# Altium schematic symbol library THS3091.SchLib: 2 symbols
Pins are listed as number, name and electrical type; pins without a type are passive.

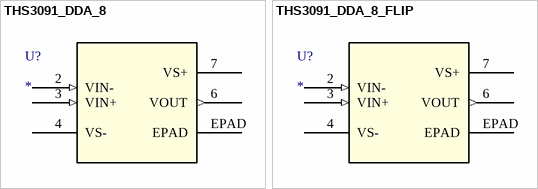
[diagram p0: symbols THS3091_DDA_8 to THS3091_DDA_8_FLIP]

## THS3091_DDA_8
designator U?
High-voltage, Low-distortion, Current-feedback Operational Amplifiers; Manufacturer: Texas Instruments; GENERIC_PART_NUMBER: THS3091; Manufacturer_Part_Number: ths3091_dda_8; INDUSTRY_STD_PKG_TYPE: SO PowerPAD; FAMILY_NAME: CURRENT FEEDBACK; PIN_COUNT: 8; PACKAGE_DESIGNATOR: DDA; Datasheet_URL: http://www.ti.com/lit/gpn/THS3091; Vendor: Texas Instruments; Value: Value; Type: Type; RefDes: RefDes
footprint DDA8_2P28X2P28
pins: 2 VIN- (in), 3 VIN+ (in), 4 VS- (power), 6 VOUT (out), 7 VS+ (power), EPAD

## THS3091_DDA_8_FLIP
designator U?
High-voltage, Low-distortion, Current-feedback Operational Amplifiers; Manufacturer: Texas Instruments; GENERIC_PART_NUMBER: THS3091; Manufacturer_Part_Number: ths3091_dda_8; INDUSTRY_STD_PKG_TYPE: SO PowerPAD; FAMILY_NAME: CURRENT FEEDBACK; PIN_COUNT: 8; PACKAGE_DESIGNATOR: DDA; Datasheet_URL: http://www.ti.com/lit/gpn/THS3091; Vendor: Texas Instruments; Value: Value; Type: Type; RefDes: RefDes
footprint DDA8_2P28X2P28_FLIP (Footprint not found)
pins: 2 VIN- (in), 3 VIN+ (in), 4 VS- (power), 6 VOUT (out), 7 VS+ (power), EPAD